# Altium footprint library PcbLib1.PcbLib: 5 footprints
Each footprint in its own frame and in the unit in brackets; x right, y up, seen from the top. Pads: shape width x height; smd on the part's side, far side on the other; paste and mask are expansions set on the pad; w line width, h text height; cw(c..) or ccw(c..) is an arc to the next point about the centre after c.
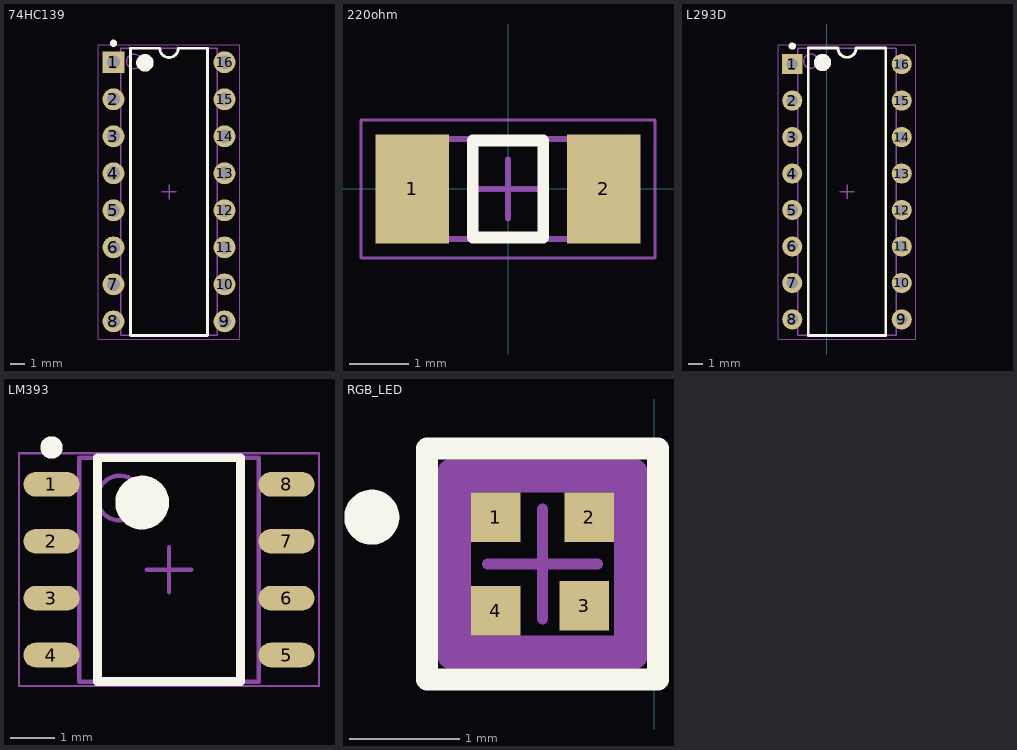
[diagram p0: the footprints below, top view; thin cyan lines are the x and y axes]

## 74HC139 [mm]
pads (16):
  rect 1.5x1.5 hole 0.9: 1(37.084,-37.465)
  round 1.5 hole 0.9: 2(37.084,-40.005) 3(37.084,-42.545) 4(37.084,-45.085) 5(37.084,-47.625) 6(37.084,-50.165) 7(37.084,-52.705) 8(37.084,-55.245) 9(44.704,-55.245) 10(44.704,-52.705) 11(44.704,-50.165) 12(44.704,-47.625) 13(44.704,-45.085) 14(44.704,-42.545) 15(44.704,-40.005) 16(44.704,-37.465)
Top Overlay:
  circle w0.6: c39.244,-37.505 r0.3
  circle w0.25: c37.084,-36.165 r0.125
  lines w0.2: 38.244,-56.205 43.544,-56.205 43.544,-36.505 41.529,-36.505 cw(c40.894,-36.505) 40.259,-36.505 38.244,-36.505 38.244,-56.205
Mechanical 1:
  text ".Designator" at 37.973,-46.863 h1.2
Mechanical 13:
  circle w0.1: c38.494,-37.405 r0.5
  lines w0.1: 37.594,-56.205 44.194,-56.205 44.194,-36.505 37.594,-36.505 37.594,-56.205
Mechanical 15:
  lines w0.05: 36.044,-56.455 45.744,-56.455 45.744,-36.255 36.044,-36.255 36.044,-56.455
  lines w0.1: 40.394,-46.355 41.394,-46.355 ; 40.894,-46.855 40.894,-45.855
3D body: height 5.08, standoff 0.51, extent 37.594,-56.205 44.194,-36.505
3D body: height 0, standoff -1.6, extent 44.569,-37.825 44.839,-37.105
3D body: height 2.93, standoff 2.66, extent 44.194,-37.965 44.839,-36.965
3D body: height 2.66, standoff 0, extent 44.569,-37.965 44.839,-36.965
3D body: height 0, standoff -1.6, extent 44.569,-40.365 44.839,-39.645
3D body: height 2.93, standoff 2.66, extent 44.194,-40.505 44.839,-39.505
3D body: height 2.66, standoff 0, extent 44.569,-40.505 44.839,-39.505
3D body: height 0, standoff -1.6, extent 44.569,-42.905 44.839,-42.185
3D body: height 2.93, standoff 2.66, extent 44.194,-43.045 44.839,-42.045
3D body: height 2.66, standoff 0, extent 44.569,-43.045 44.839,-42.045
3D body: height 0, standoff -1.6, extent 44.569,-45.445 44.839,-44.725
3D body: height 2.93, standoff 2.66, extent 44.194,-45.585 44.839,-44.585
3D body: height 2.66, standoff 0, extent 44.569,-45.585 44.839,-44.585
3D body: height 0, standoff -1.6, extent 44.569,-47.985 44.839,-47.265
3D body: height 2.93, standoff 2.66, extent 44.194,-48.125 44.839,-47.125
3D body: height 2.66, standoff 0, extent 44.569,-48.125 44.839,-47.125
3D body: height 0, standoff -1.6, extent 44.569,-50.525 44.839,-49.805
3D body: height 2.93, standoff 2.66, extent 44.194,-50.665 44.839,-49.665
3D body: height 2.66, standoff 0, extent 44.569,-50.665 44.839,-49.665
3D body: height 0, standoff -1.6, extent 44.569,-53.065 44.839,-52.345
3D body: height 2.93, standoff 2.66, extent 44.194,-53.205 44.839,-52.205
3D body: height 2.66, standoff 0, extent 44.569,-53.205 44.839,-52.205
3D body: height 0, standoff -1.6, extent 44.569,-55.605 44.839,-54.885
3D body: height 2.93, standoff 2.66, extent 44.194,-55.745 44.839,-54.745
3D body: height 2.66, standoff 0, extent 44.569,-55.745 44.839,-54.745
3D body: height 0, standoff -1.6, extent 36.949,-55.605 37.219,-54.885
3D body: height 2.93, standoff 2.66, extent 36.949,-55.745 37.594,-54.745
3D body: height 2.66, standoff 0, extent 36.949,-55.745 37.219,-54.745
3D body: height 0, standoff -1.6, extent 36.949,-53.065 37.219,-52.345
3D body: height 2.93, standoff 2.66, extent 36.949,-53.205 37.594,-52.205
3D body: height 2.66, standoff 0, extent 36.949,-53.205 37.219,-52.205
3D body: height 0, standoff -1.6, extent 36.949,-50.525 37.219,-49.805
3D body: height 2.93, standoff 2.66, extent 36.949,-50.665 37.594,-49.665
3D body: height 2.66, standoff 0, extent 36.949,-50.665 37.219,-49.665
3D body: height 0, standoff -1.6, extent 36.949,-47.985 37.219,-47.265
3D body: height 2.93, standoff 2.66, extent 36.949,-48.125 37.594,-47.125
3D body: height 2.66, standoff 0, extent 36.949,-48.125 37.219,-47.125
3D body: height 0, standoff -1.6, extent 36.949,-45.445 37.219,-44.725
3D body: height 2.93, standoff 2.66, extent 36.949,-45.585 37.594,-44.585
3D body: height 2.66, standoff 0, extent 36.949,-45.585 37.219,-44.585
3D body: height 0, standoff -1.6, extent 36.949,-42.905 37.219,-42.185
3D body: height 2.93, standoff 2.66, extent 36.949,-43.045 37.594,-42.045
3D body: height 2.66, standoff 0, extent 36.949,-43.045 37.219,-42.045
3D body: height 0, standoff -1.6, extent 36.949,-40.365 37.219,-39.645
3D body: height 2.93, standoff 2.66, extent 36.949,-40.505 37.594,-39.505
3D body: height 2.66, standoff 0, extent 36.949,-40.505 37.219,-39.505
3D body: height 0, standoff -1.6, extent 36.949,-37.825 37.219,-37.105
3D body: height 2.93, standoff 2.66, extent 36.949,-37.965 37.594,-36.965
3D body: height 2.66, standoff 0, extent 36.949,-37.965 37.219,-36.965

## 220ohm [mm] "MELF Resistor, 2-Leads, Body 3.50x1.65mm, IPC Medium Density"
height 1.7
pads (2):
  rect 1.25x1.85 smd: 1(-1.625,0) 2(1.625,0)
Top Overlay:
  lines w0.2: -0.6,-0.825 0.6,-0.825 0.6,0.825 -0.6,0.825 -0.6,-0.825
Mechanical 13:
  lines w0.1: -1.85,-0.85 -1.85,0.85 1.85,0.85 1.85,-0.85 -1.85,-0.85
Mechanical 15:
  lines w0.05: -2.5,-1.175 -2.5,1.175 2.5,1.175 2.5,-1.175 -2.5,-1.175
  lines w0.1: -0.5,0 0.5,0 ; 0,-0.5 0,0.5
3D body: height 1.69, standoff 0, extent -1.85,-0.85 -1.3,0.847
3D body: height 1.68, standoff 0.04, extent -1.3,-0.82 1.3,0.817
3D body: height 1.69, standoff 0, extent 1.3,-0.85 1.85,0.847

## L293D [mm]
pads (16):
  rect 1.4x1.4 hole 0.8: 1(-2.413,-21.463)
  round 1.4 hole 0.8: 2(-2.413,-24.003) 3(-2.413,-26.543) 4(-2.413,-29.083) 5(-2.413,-31.623) 6(-2.413,-34.163) 7(-2.413,-36.703) 8(-2.413,-39.243) 9(5.207,-39.243) 10(5.207,-36.703) 11(5.207,-34.163) 12(5.207,-31.623) 13(5.207,-29.083) 14(5.207,-26.543) 15(5.207,-24.003) 16(5.207,-21.463)
Top Overlay:
  circle w0.25: c-2.413,-20.213 r0.125
  circle w0.6: c-0.303,-21.353 r0.3
  lines w0.2: -1.303,-40.353 -1.303,-20.353 0.762,-20.353 ccw(c1.397,-20.353) 2.032,-20.353 4.097,-20.353 4.097,-40.353 -1.303,-40.353
Mechanical 13:
  circle w0.1: c-1.128,-21.253 r0.5
  lines w0.1: -2.028,-40.353 -2.028,-20.353 4.822,-20.353 4.822,-40.353 -2.028,-40.353
Mechanical 15:
  lines w0.05: -3.403,-40.603 -3.403,-20.103 6.197,-20.103 6.197,-40.603 -3.403,-40.603
  lines w0.1: 0.897,-30.353 1.897,-30.353 ; 1.397,-30.853 1.397,-29.853
3D body: height 2.69, standoff 0, extent -2.533,-21.913 -2.293,-21.013
3D body: height 2.93, standoff 2.69, extent -2.533,-21.913 -2.028,-21.013
3D body: height 0, standoff -1.6, extent -2.533,-21.783 -2.293,-21.143
3D body: height 2.69, standoff 0, extent -2.533,-24.453 -2.293,-23.553
3D body: height 2.93, standoff 2.69, extent -2.533,-24.453 -2.028,-23.553
3D body: height 0, standoff -1.6, extent -2.533,-24.323 -2.293,-23.683
3D body: height 2.69, standoff 0, extent -2.533,-26.993 -2.293,-26.093
3D body: height 2.93, standoff 2.69, extent -2.533,-26.993 -2.028,-26.093
3D body: height 0, standoff -1.6, extent -2.533,-26.863 -2.293,-26.223
3D body: height 2.69, standoff 0, extent -2.533,-29.533 -2.293,-28.633
3D body: height 2.93, standoff 2.69, extent -2.533,-29.533 -2.028,-28.633
3D body: height 0, standoff -1.6, extent -2.533,-29.403 -2.293,-28.763
3D body: height 2.69, standoff 0, extent -2.533,-32.073 -2.293,-31.173
3D body: height 2.93, standoff 2.69, extent -2.533,-32.073 -2.028,-31.173
3D body: height 0, standoff -1.6, extent -2.533,-31.943 -2.293,-31.303
3D body: height 2.69, standoff 0, extent -2.533,-34.613 -2.293,-33.713
3D body: height 2.93, standoff 2.69, extent -2.533,-34.613 -2.028,-33.713
3D body: height 0, standoff -1.6, extent -2.533,-34.483 -2.293,-33.843
3D body: height 2.69, standoff 0, extent -2.533,-37.153 -2.293,-36.253
3D body: height 2.93, standoff 2.69, extent -2.533,-37.153 -2.028,-36.253
3D body: height 0, standoff -1.6, extent -2.533,-37.023 -2.293,-36.383
3D body: height 2.69, standoff 0, extent -2.533,-39.693 -2.293,-38.793
3D body: height 2.93, standoff 2.69, extent -2.533,-39.693 -2.028,-38.793
3D body: height 0, standoff -1.6, extent -2.533,-39.563 -2.293,-38.923
3D body: height 2.69, standoff 0, extent 5.087,-39.693 5.327,-38.793
3D body: height 2.93, standoff 2.69, extent 4.822,-39.693 5.327,-38.793
3D body: height 0, standoff -1.6, extent 5.087,-39.563 5.327,-38.923
3D body: height 2.69, standoff 0, extent 5.087,-37.153 5.327,-36.253
3D body: height 2.93, standoff 2.69, extent 4.822,-37.153 5.327,-36.253
3D body: height 0, standoff -1.6, extent 5.087,-37.023 5.327,-36.383
3D body: height 2.69, standoff 0, extent 5.087,-34.613 5.327,-33.713
3D body: height 2.93, standoff 2.69, extent 4.822,-34.613 5.327,-33.713
3D body: height 0, standoff -1.6, extent 5.087,-34.483 5.327,-33.843
3D body: height 2.69, standoff 0, extent 5.087,-32.073 5.327,-31.173
3D body: height 2.93, standoff 2.69, extent 4.822,-32.073 5.327,-31.173
3D body: height 0, standoff -1.6, extent 5.087,-31.943 5.327,-31.303
3D body: height 2.69, standoff 0, extent 5.087,-29.533 5.327,-28.633
3D body: height 2.93, standoff 2.69, extent 4.822,-29.533 5.327,-28.633
3D body: height 0, standoff -1.6, extent 5.087,-29.403 5.327,-28.763
3D body: height 2.69, standoff 0, extent 5.087,-26.993 5.327,-26.093
3D body: height 2.93, standoff 2.69, extent 4.822,-26.993 5.327,-26.093
3D body: height 0, standoff -1.6, extent 5.087,-26.863 5.327,-26.223
3D body: height 2.69, standoff 0, extent 5.087,-24.453 5.327,-23.553
3D body: height 2.93, standoff 2.69, extent 4.822,-24.453 5.327,-23.553
3D body: height 0, standoff -1.6, extent 5.087,-24.323 5.327,-23.683
3D body: height 2.69, standoff 0, extent 5.087,-21.913 5.327,-21.013
3D body: height 2.93, standoff 2.69, extent 4.822,-21.913 5.327,-21.013
3D body: height 0, standoff -1.6, extent 5.087,-21.783 5.327,-21.143
3D body: height 5.1, standoff 0.51, extent -2.028,-40.353 4.822,-20.353

## LM393 [mm]
pads (8):
  oval 1.25x0.55 smd: 1(21.124,-16.891) 2(21.124,-18.161) 3(21.124,-19.431) 4(21.124,-20.701) 5(26.374,-20.701) 6(26.374,-19.431) 7(26.374,-18.161) 8(26.374,-16.891)
Top Overlay:
  circle w0.6: c23.149,-17.296 r0.3
  circle w0.25: c21.124,-16.066 r0.125
  lines w0.2: 22.149,-21.296 25.349,-21.296 25.349,-16.296 22.149,-16.296 22.149,-21.296
Mechanical 13:
  circle w0.1: c22.649,-17.196 r0.5
  lines w0.1: 21.749,-21.296 25.749,-21.296 25.749,-16.296 21.749,-16.296 21.749,-21.296
Mechanical 15:
  lines w0.05: 20.399,-21.396 27.099,-21.396 27.099,-16.196 20.399,-16.196 20.399,-21.396
  lines w0.1: 23.249,-18.796 24.249,-18.796 ; 23.749,-19.296 23.749,-18.296
3D body "SOIC127P600X175-8L.step": height 1.75, standoff 0, extent 20.749,-21.296 26.749,-16.296

## RGB_LED [mm]
pads (4):
  rect 0.45x0.45 smd paste+0 mask+0: 1(-1.441,-11.64) 2(-0.591,-11.64) 3(-0.635,-12.446) 4(-1.441,-12.49)
Top Overlay:
  circle w0.25: c-2.566,-11.64 r0.125
  lines w0.2: -2.066,-13.115 -2.066,-11.015 0.034,-11.015 0.034,-13.115 -2.066,-13.115
Mechanical 5:
  lines w0.2: -1.866,-12.915 -1.866,-11.215 -0.166,-11.215 -0.166,-12.915 -1.866,-12.915
  text ".Designator" at -1.016,-11.877 h1
Mechanical 13:
  lines w0.2: -1.766,-12.815 -1.766,-11.315 -0.266,-11.315 -0.266,-12.815 -1.766,-12.815
Mechanical 15:
  lines w0.2: -1.866,-12.915 -1.866,-11.215 -0.166,-11.215 -0.166,-12.915 -1.866,-12.915
Mechanical 16:
  lines w0.1: -1.516,-12.065 -0.516,-12.065 ; -1.016,-12.565 -1.016,-11.565
3D body "Diode_Lumex_SML-LX0404SIUPGUSB_eec.STEP": height 0.25, standoff 0, extent -1.866,-12.915 -0.166,-11.215